# EAGLE library part SLG7004V_DIP (library SLG47004V-DIP)
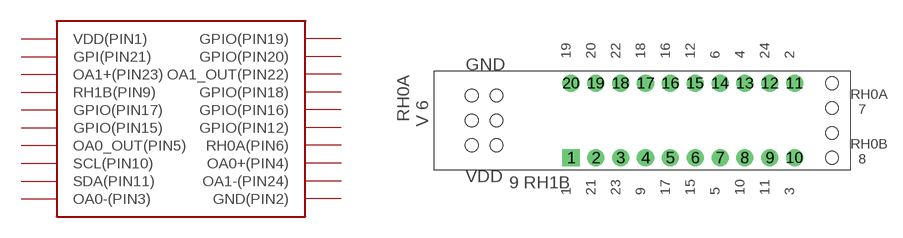
[diagram p0: symbol with the pads of SLG47004V-DIP; footprint SLG47004V-DIP]

Designator prefix FPGA

## SLG7004V_DIP  [SLG47004V-DIP]
1  VDD(PIN1)  pwr
2  GPI(PIN21)  in
3  OA1+(PIN23)
4  RH1B(PIN9)  pas
5  GPIO(PIN17)
6  GPIO(PIN15)
7  OA0_OUT(PIN5)
8  SCL(PIN10)
9  SDA(PIN11)
10  OA0-(PIN3)  oc
11  GND(PIN2)  pwr
12  OA1-(PIN24)
13  OA0+(PIN4)
14  RH0A(PIN6)  pas
15  GPIO(PIN12)
16  GPIO(PIN16)
17  GPIO(PIN18)  in
18  OA1_OUT(PIN22)
19  GPIO(PIN20)
20  GPIO(PIN19)

## Footprint SLG47004V-DIP (pad centres in mm)
Dialog SLG47004V-DIP Mixed Signal FPGA
drill 1.15 pad 1.75 square: 1 -5.08,-3.81
drill 1.15 pad 1.75: 2 -2.54,-3.81; 3 0,-3.81; 4 2.54,-3.81; 5 5.074,-3.81; 6 7.62,-3.81; 7 10.16,-3.81; 8 12.7,-3.81; 9 15.24,-3.81; 10 17.78,-3.81; 11 17.78,3.81; 12 15.24,3.81; 13 12.7,3.81; 14 10.16,3.81; 15 7.62,3.81; 16 5.08,3.81; 17 2.54,3.81; 18 0,3.81; 19 -2.54,3.81; 20 -5.08,3.81